# EAGLE library part MSGEQ7 (library bg_eagle_lib)
The seven band graphic equalizer IC is a CMOS chip that divides the audio spectrum into seven bands, 63Hz, 160Hz, 400Hz, 1kHz, 2.5kHz, 6.25kHz and 16kHz. The seven frequencies are peak detected and multiplexed to the output to provide a DC representation of the amplitude of each band. No external components are needed to select the filter responses. Only an off chip resistor and capacitor are needed to select the on chip clock oscillator frequency. The filter center frequencies track this frequency
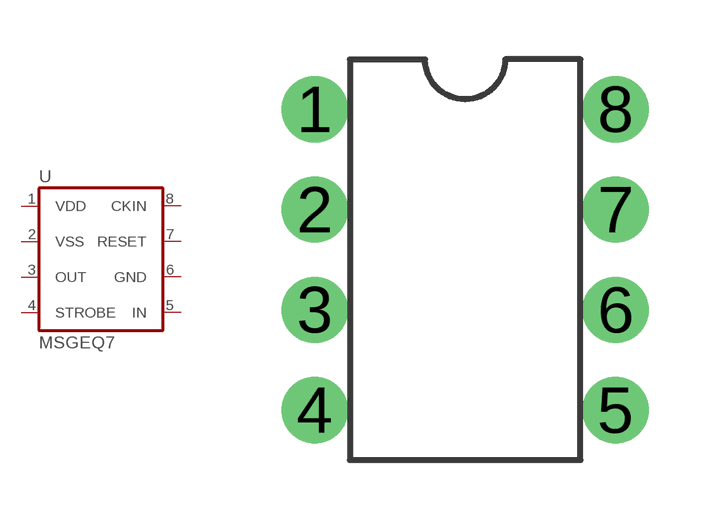
[diagram p1: symbol with the pads of DIL08-ROUND; footprint DIL08-ROUND]

Designator prefix -

## MSGEQ7  [DIL08-ROUND]
1  VDD  pwr
2  VSS  pwr
3  OUT  out
4  STROBE  in
5  IN  in
6  GND  pwr
7  RESET  in
8  CKIN  in

## Footprint DIL08-ROUND (pad centres in mm)
Dual In Line Package
drill 0.813 pad 1.676: 1 -3.81,3.81; 2 -3.81,1.27; 3 -3.81,-1.27; 4 -3.81,-3.81; 5 3.81,-3.81; 6 3.81,-1.27; 7 3.81,1.27; 8 3.81,3.81